# EAGLE library part ADC8032 (library Geisa)
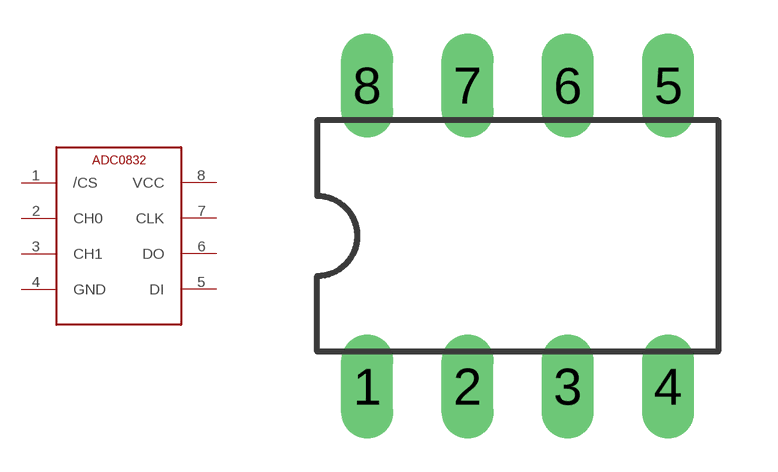
[diagram p1: symbol with the pads of DIL8; footprint DIL8]

Designator prefix -

## ADC8032  [DIL8]
1  /CS
2  CH0
3  CH1
4  GND
5  DI
6  DO
7  CLK
8  VCC

## Footprint DIL8 (pad centres in mm)
drill 0.813 long: 1 -8.89,-3.81; 2 -6.35,-3.81; 3 -3.81,-3.81; 4 -1.27,-3.81; 5 -1.27,3.81; 6 -3.81,3.81; 7 -6.35,3.81; 8 -8.89,3.81